# Altium footprint library transform.PcbLib: 53 footprints (part 1 of 4)
Each footprint in its own frame and in the unit in brackets; x right, y up, seen from the top. Pads: shape width x height; smd on the part's side, far side on the other; paste and mask are expansions set on the pad; w line width, h text height; cw(c..) or ccw(c..) is an arc to the next point about the centre after c.
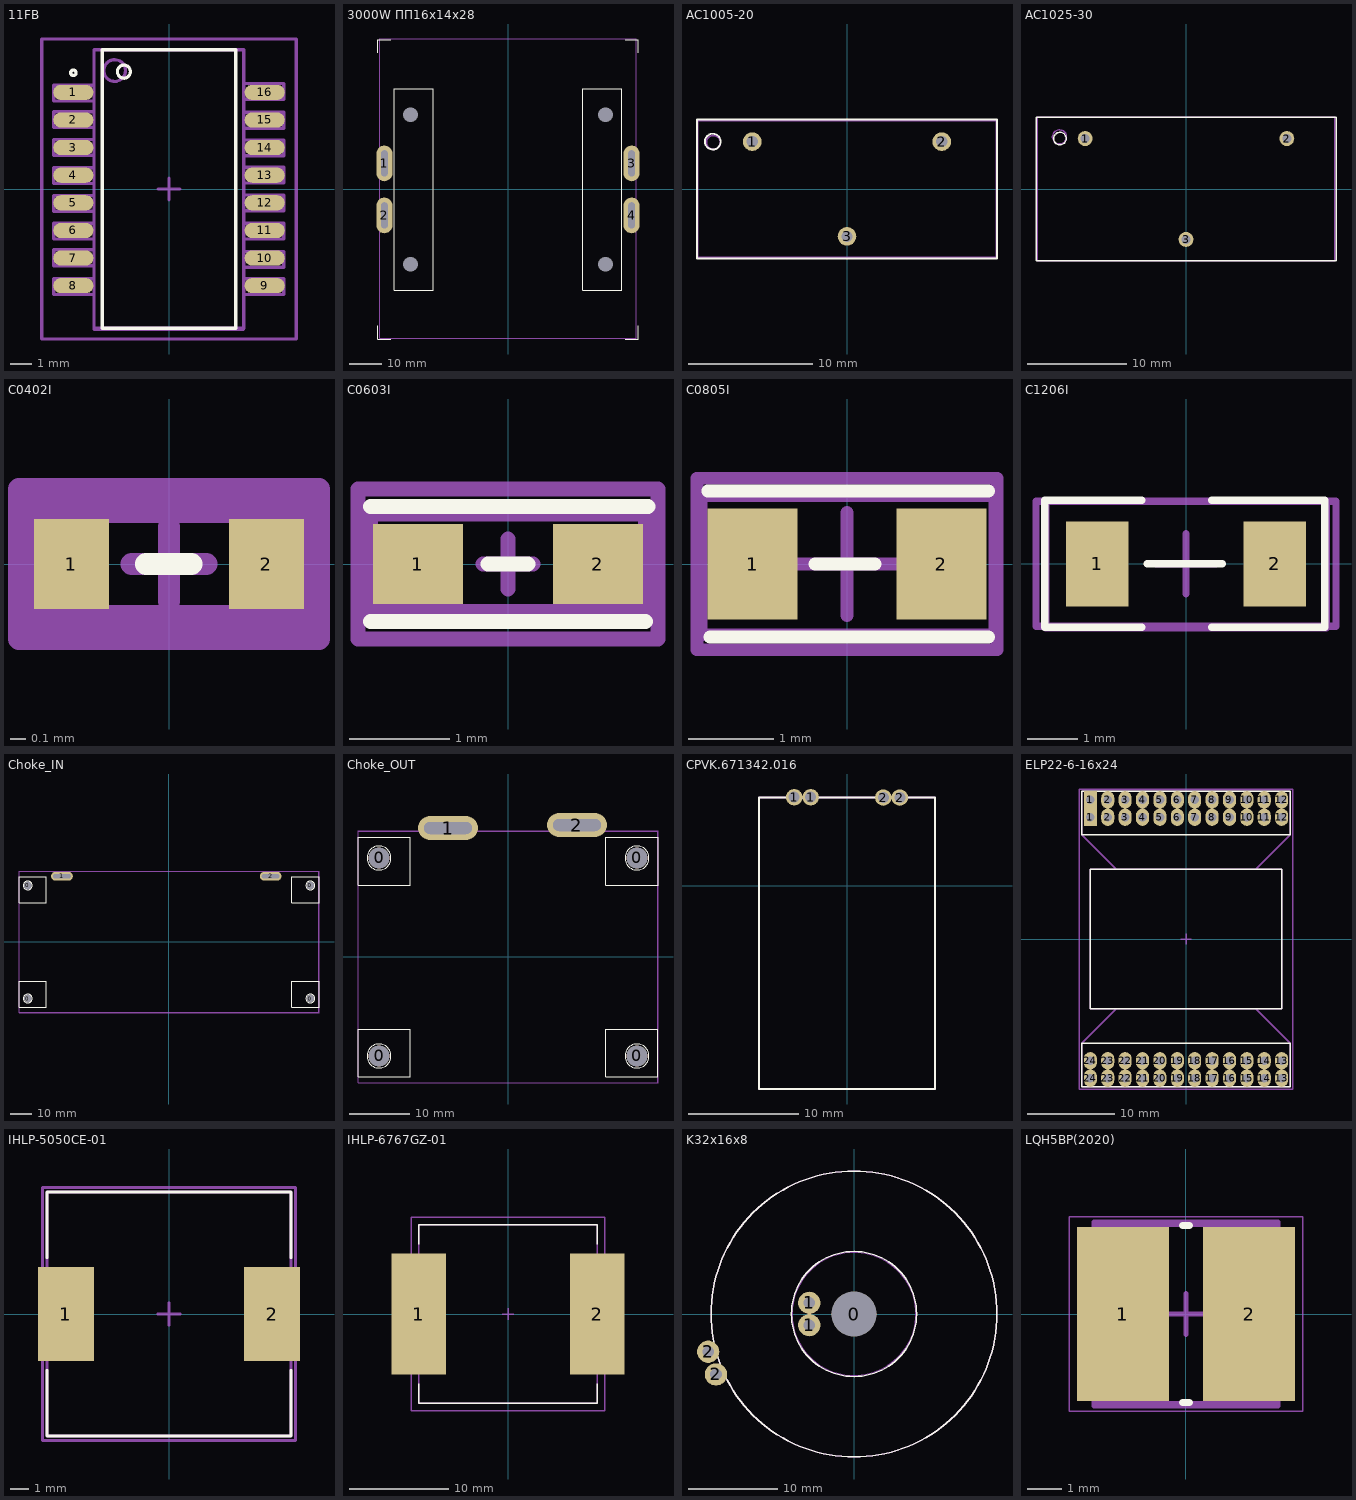
[diagram p0: the footprints below, top view; thin cyan lines are the x and y axes]

## 11FB [mm] "SOP, 16-Leads, Body 12,8x6,9mm (max), Pitch 1,27mm, IPC Low Density"
height 5.65
pads (16):
  oval 1.85x0.7 smd: 1(-4.4,4.445) 2(-4.4,3.175) 3(-4.4,1.905) 4(-4.4,0.635) 5(-4.4,-0.635) 6(-4.4,-1.905) 7(-4.4,-3.175) 8(-4.4,-4.445) 9(4.4,-4.445) 10(4.4,-3.175) 11(4.4,-1.905) 12(4.4,-0.635) 13(4.4,0.635) 14(4.4,1.905) 15(4.4,3.175) 16(4.4,4.445)
Top Overlay:
  circle w0.15: c-4.4,5.345 r0.125
  circle w0.15: c-2.075,5.4 r0.3
  lines w0.15: -3.075,-6.4 -3.075,6.4 3.075,6.4 3.075,-6.4 -3.075,-6.4
Mechanical 15:
  lines w0.15: -0.5,0 0.5,0 ; 0,-0.5 0,0.5 ; -5.85,-6.9 -5.85,6.9 5.85,6.9 5.85,-6.9 -5.85,-6.9
Mechanical 29:
  circle w0.15: c-2.5,5.45 r0.5
  lines w0.15: -3.45,-4.85 -5.3,-4.85 -5.3,-4.125 -3.45,-4.125 ; -3.45,-3.525 -5.3,-3.525 -5.3,-2.8 -3.45,-2.8 ; -3.45,-2.3 -5.3,-2.3 -5.3,-1.575 -3.45,-1.575 ; -3.45,-1.025 -5.3,-1.025 -5.3,-0.3 -3.45,-0.3 ; -3.45,0.25 -5.3,0.25 -5.3,0.975 -3.45,0.975 ; -3.45,1.55 -5.3,1.55 -5.3,2.275 -3.45,2.275 ; -3.45,2.825 -5.3,2.825 -5.3,3.55 -3.45,3.55 ; -3.45,4.05 -5.3,4.05 -5.3,4.775 -3.45,4.775 ; 3.425,-4.85 5.275,-4.85 5.275,-4.125 3.425,-4.125 ; 3.425,-3.6 5.275,-3.6 5.275,-2.875 3.425,-2.875 ; 3.425,-2.3 5.275,-2.3 5.275,-1.575 3.425,-1.575 ; 3.425,-1 5.275,-1 5.275,-0.275 3.425,-0.275 ; 3.425,0.275 5.275,0.275 5.275,1 3.425,1 ; 3.425,1.525 5.275,1.525 5.275,2.25 3.425,2.25 ; 3.425,2.8 5.275,2.8 5.275,3.525 3.425,3.525 ; 3.425,4.125 5.275,4.125 5.275,4.85 3.425,4.85 ; -3.45,6.4 -3.45,-6.4 3.45,-6.4 3.45,6.4 -3.45,6.4 ; -3.45,6.4 -3.45,-6.45 3.425,-6.45 3.425,6.4 -3.45,6.4
3D body "11FB-05NL.STEP": height 5.62, standoff -0.03, extent -5.3,-6.45 5.3,6.35

## 3000W ПП16х14х28 [mm]
height 63
pads (8):
  oval 5x11 hole 2 slot 8 at 90 deg: 1(-38,8) 2(-38,-8) 3(38,8) 4(38,-8)
  round 1.8 hole 4.5 unplated: SCTH(-30,-23) SCTH(-30,23) SCTH(30,-23) SCTH(30,23)
Top Overlay:
  lines w0.15: -40,-42 -40,-46 -36,-46 ; -40,42 -40,46 -36,46 ; 36,-46 40,-46 40,-42 ; 36,46 40,46 40,42 ; -35,-31 -23,-31 -23,31 -35,31 -35,-31 ; 23,-31 35,-31 35,31 23,31 23,-31
Mechanical 29:
  lines w0.15: -39.5,-45.75 -39.5,46.25 39.5,46.25 39.5,-45.75 -39.5,-45.75
3D body "TRANS.STEP": height 62.8, standoff 0, extent -39.5,-46 39.5,46

## AC1005-20 [mm]
height 23
pads (3):
  round 1.5 hole 0.9: 1(-7.62,3.81) 2(7.62,3.81) 3(0,-3.81)
Top Overlay:
  circle w0.15: c-10.795,3.81 r0.635
  lines w0.15: -12.065,-5.588 -12.065,5.588 12.065,5.588 12.065,-5.588 -12.065,-5.588
Mechanical 29:
  circle w0.15: c-10.75,3.75 r0.559
  lines w0.15: -12,-5.5 -12,5.5 12,5.5 12,-5.5 -12,-5.5
3D body: height 23.8, standoff 0, extent -12.064,-5.587 12.064,5.587

## AC1025-30 [mm]
height 30.2
pads (3):
  round 1.5 hole 0.9: 1(-10.16,5.08) 2(10.16,5.08) 3(0,-5.08)
Top Overlay:
  circle w0.15: c-12.7,5.08 r0.635
  lines w0.15: -15.113,-7.239 15.113,-7.239 15.113,7.239 -15.113,7.239 -15.113,-7.239
Mechanical 29:
  circle w0.15: c-12.75,5.25 r0.707
  lines w0.15: -15,-7.25 -15,7.25 15,7.25 15,-7.25 -15,-7.25
3D body: height 30.2, standoff 0, extent -15.113,-7.239 15.113,7.239

## C0402I [mm]
pads (2):
  rect 0.5x0.6 smd: 1(-0.65,0) 2(0.65,0)
Top Overlay:
  lines w0.15: -0.15,0 0.15,0
Mechanical 15:
  lines w0.15: -0.25,0 0,0 ; 0,-0.25 0,0 ; 0,0.25 0,0 ; 0.25,0 0,0 ; -1,-0.5 -1,0.5 1,0.5 1,-0.5 -1,-0.5
Mechanical 29:
  lines w0.15: -0.95,-0.35 -0.95,0.35 0.95,0.35 0.95,-0.35 -0.95,-0.35
3D body "0402C.STEP": height 0.36, standoff 0, extent -0.525,-0.25 0.475,0.28

## C0603I [mm]
height 0.8
pads (2):
  rect 0.9x0.8 smd: 1(-0.9,0) 2(0.9,0)
Top Overlay:
  lines w0.15: -1.375,-0.575 1.375,-0.575 ; -1.375,0.575 1.4,0.575 ; -0.2,0 0.2,0
Mechanical 15:
  lines w0.15: -0.25,0 0,0 ; 0,-0.25 0,0 ; 0,0.25 0,0 ; 0.25,0 0,0 ; -1.5,-0.75 1.5,-0.75 1.5,0.75 -1.5,0.75 -1.5,-0.75
Mechanical 29:
  lines w0.15: -1.377,-0.475 -1.377,0.5 1.375,0.5 1.375,-0.475 -1.377,-0.475
3D body: height 0.45, standoff 0, extent -0.5,-0.41 0.5,0.41
3D body: height 0.45, standoff 0, extent 0.5,-0.41 0.7,0.41
3D body: height 0.45, standoff 0, extent -0.7,-0.41 -0.5,0.41

## C0805I [mm]
height 1
pads (2):
  rect 1.05x1.3 smd: 1(-1.1,0) 2(1.1,0)
Top Overlay:
  lines w0.15: -1.625,0.85 1.65,0.85 ; -1.6,-0.85 1.65,-0.85 ; -0.375,0 0.325,0
Mechanical 15:
  lines w0.15: -0.6,0 0,0 ; 0,-0.6 0,0 ; 0,0.6 0,0 ; 0.6,0 0,0 ; -1.75,-1 -1.75,1 1.75,1 1.75,-1 -1.75,-1
Mechanical 29:
  lines w0.15: -1.7,-0.825 1.725,-0.825 1.725,0.8 -1.7,0.8 -1.7,-0.825
3D body: height 0.8, standoff 0, extent 0.4,-0.6 1,0.6
3D body: height 0.8, standoff 0, extent -0.4,-0.6 0.4,0.6
3D body: height 0.8, standoff 0, extent -1,-0.6 -0.4,0.6

## C1206I [mm]
pads (2):
  rect 1.25x1.7 smd: 1(-1.775,0) 2(1.775,0)
Top Overlay:
  lines w0.15: -0.886,-1.27 -2.825,-1.27 -2.825,1.27 -0.886,1.27 ; -0.775,0 0.725,0 ; 0.511,-1.27 2.775,-1.27 2.775,1.27 0.511,1.27
Mechanical 15:
  lines w0.15: -0.6,0 0,0 ; 0,-0.6 0,0 ; 0,0.6 0,0 ; 0.6,0 0,0 ; -3,-1.25 -3,1.25 3,1.25 3,-1.25 -3,-1.25
Mechanical 29:
  lines w0.15: -2.8,-1.275 2.8,-1.275 2.8,1.25 -2.8,1.25 -2.8,-1.275
3D body: height 0.8, standoff 0, extent -1.7,-0.8 -0.9,0.8
3D body: height 0.8, standoff 0, extent -0.9,-0.8 0.9,0.8
3D body: height 0.8, standoff 0, extent 0.9,-0.8 1.7,0.8

## Choke_IN [mm]
pads (6):
  round 3.5 hole 3.5 unplated: 0(-65,-26) 0(-65,26) 0(65,-26) 0(65,26)
  oval 10x4 hole 2 slot 8 at 0 deg unplated: 1(-49.25,30.25) 2(46.75,30.25)
Top Overlay:
  circle w0.15: c-65,26 r2
  circle w0.15: c65,26 r2
  circle w0.15: c65,-26 r2
  circle w0.15: c-65,-26 r2
  lines w0.15: -69,-30 -69,-18 -56.5,-18 -56.5,-30 -69,-30 ; -69,18 -56.5,18 -56.5,30 -69,30 -69,18 ; 56.5,-30 69,-30 69,-18 56.5,-18 56.5,-30 ; 56.5,18 69,18 69,30 56.5,30 56.5,18
Mechanical 1:
  lines w0.15: -69,-32.5 -69,32.5 69,32.5 69,-32.5 -69,-32.5
Mechanical 29:
  lines w0.15: -69,-32.25 -69,32.5 69,32.5 69,-32.25 -69,-32.25
3D body "Дроссель Входной.STEP": height 74.5, standoff 0, extent -69,-32.5 69,32.5

## Choke_OUT [mm]
pads (6):
  round 3.5 hole 3.5 unplated: 0(-21.5,-16.5) 0(-21.5,16.5) 0(21.5,-16.5) 0(21.5,16.5)
  oval 10x4 hole 2 slot 8 at 0 deg unplated: 1(-10,21.5) 2(11.5,22)
Top Overlay:
  circle w0.15: c21.5,-16.5 r2
  circle w0.15: c21.5,16.5 r2
  circle w0.15: c-21.5,16.5 r2
  circle w0.15: c-21.5,-16.5 r2
  lines w0.15: -25,-20 -25,-12 -16.3,-12 -16.3,-20 -25,-20 ; -25,12 -16.3,12 -16.3,20 -25,20 -25,12 ; 16.3,-20 25,-20 25,-12 16.3,-12 16.3,-20 ; 16.3,12 16.3,20 25,20 25,12 16.3,12
Mechanical 1:
  lines w0.15: -25,20.9 -25,-21 25,-21 25,21 -25,21
Mechanical 29:
  lines w0.15: -25,-21 -25,21 25,21 25,-21 -25,-21
3D body "Дроссель Выходной.STEP": height 53, standoff 0, extent -25,-21 25,21

## CPVK.671342.016 [mm]
height 9
pads (4):
  round 1.5 hole 1: 1(-4.8,8.025) 1(-3.3,8.025) 2(3.3,8) 2(4.8,8)
Top Overlay:
  lines w0.15: -8,-18.5 8,-18.5 8,8 -8,8 -8,-18.5
Mechanical 29:
  lines w0.15: -8,-18.5 8,-18.5 8,8 -8,8 -8,-18.5
3D body "трансбинокли.STEP": height 9, standoff 1, extent -7.5,-18 7.5,6
3D body: height 0.5, standoff 0, extent -5.999,-16 5.999,5.999

## ELP22-6-16x24 [mm]
height 12
pads (48):
  rect 1.5x2 hole 1: 1(-11,14) 1(-11,16)
  oval 1.5x2 hole 1: 2(-9,14) 2(-9,16) 3(-7,14) 3(-7,16) 4(-5,14) 4(-5,16) 5(-3,14) 5(-3,16) 6(-1,14) 6(-1,16) 7(1,14) 7(1,16) 8(3,14) 8(3,16) 9(5,14) 9(5,16) 10(7,14) 10(7,16) 11(9,14) 11(9,16) 12(11,14) 12(11,16) 13(11,-16) 13(11,-14) 14(9,-16) 14(9,-14) 15(7,-16) 15(7,-14) 16(5,-16) 16(5,-14) 17(3,-16) 17(3,-14) 18(1,-16) 18(1,-14) 19(-1,-16) 19(-1,-14) 20(-3,-16) 20(-3,-14) 21(-5,-16) 21(-5,-14) 22(-7,-16) 22(-7,-14) 23(-9,-16) 23(-9,-14) 24(-11,-16) 24(-11,-14)
Top Overlay:
  lines w0.15: -12,-17 12,-17 12,-12 -12,-12 -12,-17 ; -12,12 -12,17 12,17 12,12 -12,12 ; -11,-8 11,-8 11,8 -11,8 -11,-8
Mechanical 15:
  lines w0.15: -0.6,0 0,0 ; 0,-0.6 0,0 ; 0,0.6 0,0 ; 0.6,0 0,0 ; -12.25,-17.25 -12.25,17.25 12.25,17.25 12.25,-17.25 -12.25,-17.25
Mechanical 29:
  lines w0.15: -12,15 -12,17 ; -8,-8 -12,-12 -12,-13 -12,-17 12,-17 12,-13 12,-12 8,-8 ; -8,8 -12,12 -12,13 -12,17 ; 8,8 12,12 12,13 12,17 ; 12,15 12,17 ; -12,17 12,17 ; -11,-8 11,-8 11,8 -11,8 -11,-8
3D body: height 8, standoff 4, extent -12,-17 12,17
3D body "ELP22-6-16.STEP": height 11.4, standoff 0, extent -10.9,-7.9 10.9,7.9

## IHLP-5050CE-01 [mm]
height 3.5
pads (2):
  rect 3x5 smd: 1(-5.5,0) 2(5.5,0)
Top Overlay:
  lines w0.15: -6.5,-3 -6.5,-6.5 6.5,-6.5 6.5,-3 ; -6.5,3 -6.5,6.5 6.5,6.5 6.5,3
Mechanical 15:
  lines w0.15: -0.6,0 0,0 ; 0,-0.6 0,0 ; 0,0.6 0,0 ; 0.6,0 0,0 ; -6.75,-6.75 6.75,-6.75 6.75,6.75 -6.75,6.75 -6.75,-6.75
Mechanical 29:
  lines w0.15: -6.5,-6.5 6.5,-6.5 6.5,6.5 -6.5,6.5 -6.5,-6.5
3D body: height 3.5, standoff 0.1, extent -6.5,-6.5 6.5,6.5

## IHLP-6767GZ-01 [mm]
height 7
pads (2):
  rect 5.5x12.2 smd: 1(-9,0) 2(9,0)
Top Overlay:
  lines w0.15: -9,-7 -9,-9 9,-9 9,-7 ; -9,7 -9,9 9,9 9,7
Top Solder:
  rectangle: 9.25,-6.25 11.75,-3.5
  rectangle: 9.25,-3 11.75,-0.25
  rectangle: 9.25,0.25 11.75,3
  rectangle: 9.25,3.5 11.75,6.25
  rectangle: 6.25,-6.25 8.75,-3.5
  rectangle: 6.25,-3 8.75,-0.25
  rectangle: 6.25,0.25 8.75,3
  rectangle: 6.25,3.5 8.75,6.25
  rectangle: -8.75,-6.25 -6.25,-3.5
  rectangle: -8.75,-3 -6.25,-0.25
  rectangle: -8.75,0.25 -6.25,3
  rectangle: -8.75,3.5 -6.25,6.25
  rectangle: -11.75,3.5 -9.25,6.25
  rectangle: -11.75,0.25 -9.25,3
  rectangle: -11.75,-3 -9.25,-0.25
  rectangle: -11.75,-6.25 -9.25,-3.5
Mechanical 15:
  lines w0.15: -0.6,0 0,0 ; 0,-0.6 0,0 ; 0,0.6 0,0 ; 0.6,0 0,0 ; -9.75,-9.75 9.75,-9.75 9.75,9.75 -9.75,9.75 -9.75,-9.75
Mechanical 29:
  lines w0.15: -9,-9 9,-9 9,9 -9,9 -9,-9
3D body: height 7, standoff 0.1, extent -9,-9 9,9

## K32x16x8 [mm]
pads (5):
  round 5 hole 5: 0(0,0)
  round 2.5 hole 1.3: 1(-5,-1.25) 1(-5,1.25) 2(-16.319,-4.226) 2(-15.446,-6.761)
Top Overlay:
  circle w0.15: c0,0 r7
  circle w0.15: c0,0 r16
Mechanical 29:
  circle w0.15: c0,0 r6.92
  circle w0.15: c0,0 r16
3D body: height 16, standoff 1, extent -16,-16 16,15.991

## LQH5BP(2020) [mm] "LQH5BP Series 2020 Case"
height 2.2
pads (2):
  rect 2.7x5.1 smd: 1(-1.85,0) 2(1.85,0)
Top Overlay:
  lines w0.2: -0.1,-2.6 0.1,-2.6 ; -0.1,2.6 0.1,2.6
Assembly Top:
  lines w0.1: -2.6,-2.6 -2.6,2.6 2.6,2.6 2.6,-2.6 -2.6,-2.6
Courtyard Top:
  lines w0.05: -3.425,-2.85 -3.425,2.85 3.425,2.85 3.425,-2.85 -3.425,-2.85
  lines w0.1: -0.5,0 0.5,0 ; 0,-0.5 0,0.5
Mechanical 15:
  lines w0.15: -0.6,0 0,0 ; 0,-0.6 0,0 ; 0,0.6 0,0 ; 0.6,0 0,0 ; -2.7,-2.7 -2.7,2.7 2.7,2.7 2.7,-2.7 -2.7,-2.7
3D body: height 2.2, standoff 0, extent -2.6,-2.6 2.6,2.6